# EAGLE library part DECADE-AT24C256-10TI-2.7 (library DECADE-libraries)
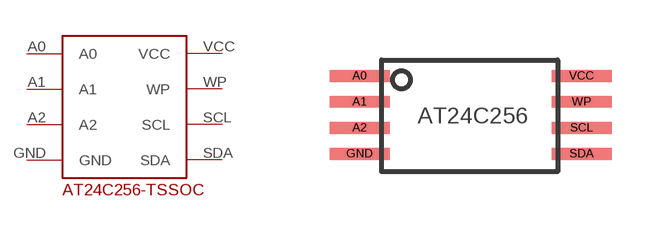
[diagram p3: symbol with the pads of DECADE-AT24CXX; footprint DECADE-AT24CXX]

Designator prefix -

## DECADE-AT24C256-10TI-2.7  [DECADE-AT24CXX]
A0  A0
A1  A1
A2  A2
GND  GND
SCL  SCL
SDA  SDA
VCC  VCC
WP  WP

## Footprint DECADE-AT24CXX (pad centres in mm)
smd 1.5 x 0.3: A0 -2.75,1; A1 -2.75,0.35; A2 -2.75,-0.3; GND -2.75,-0.95; SCL 2.8,-0.3; SDA 2.8,-0.95; VCC 2.8,1; WP 2.8,0.35